# Altium schematic symbol library Marvell.SchLib: 4 symbols
Pins are listed as number, name and electrical type; pins without a type are passive.

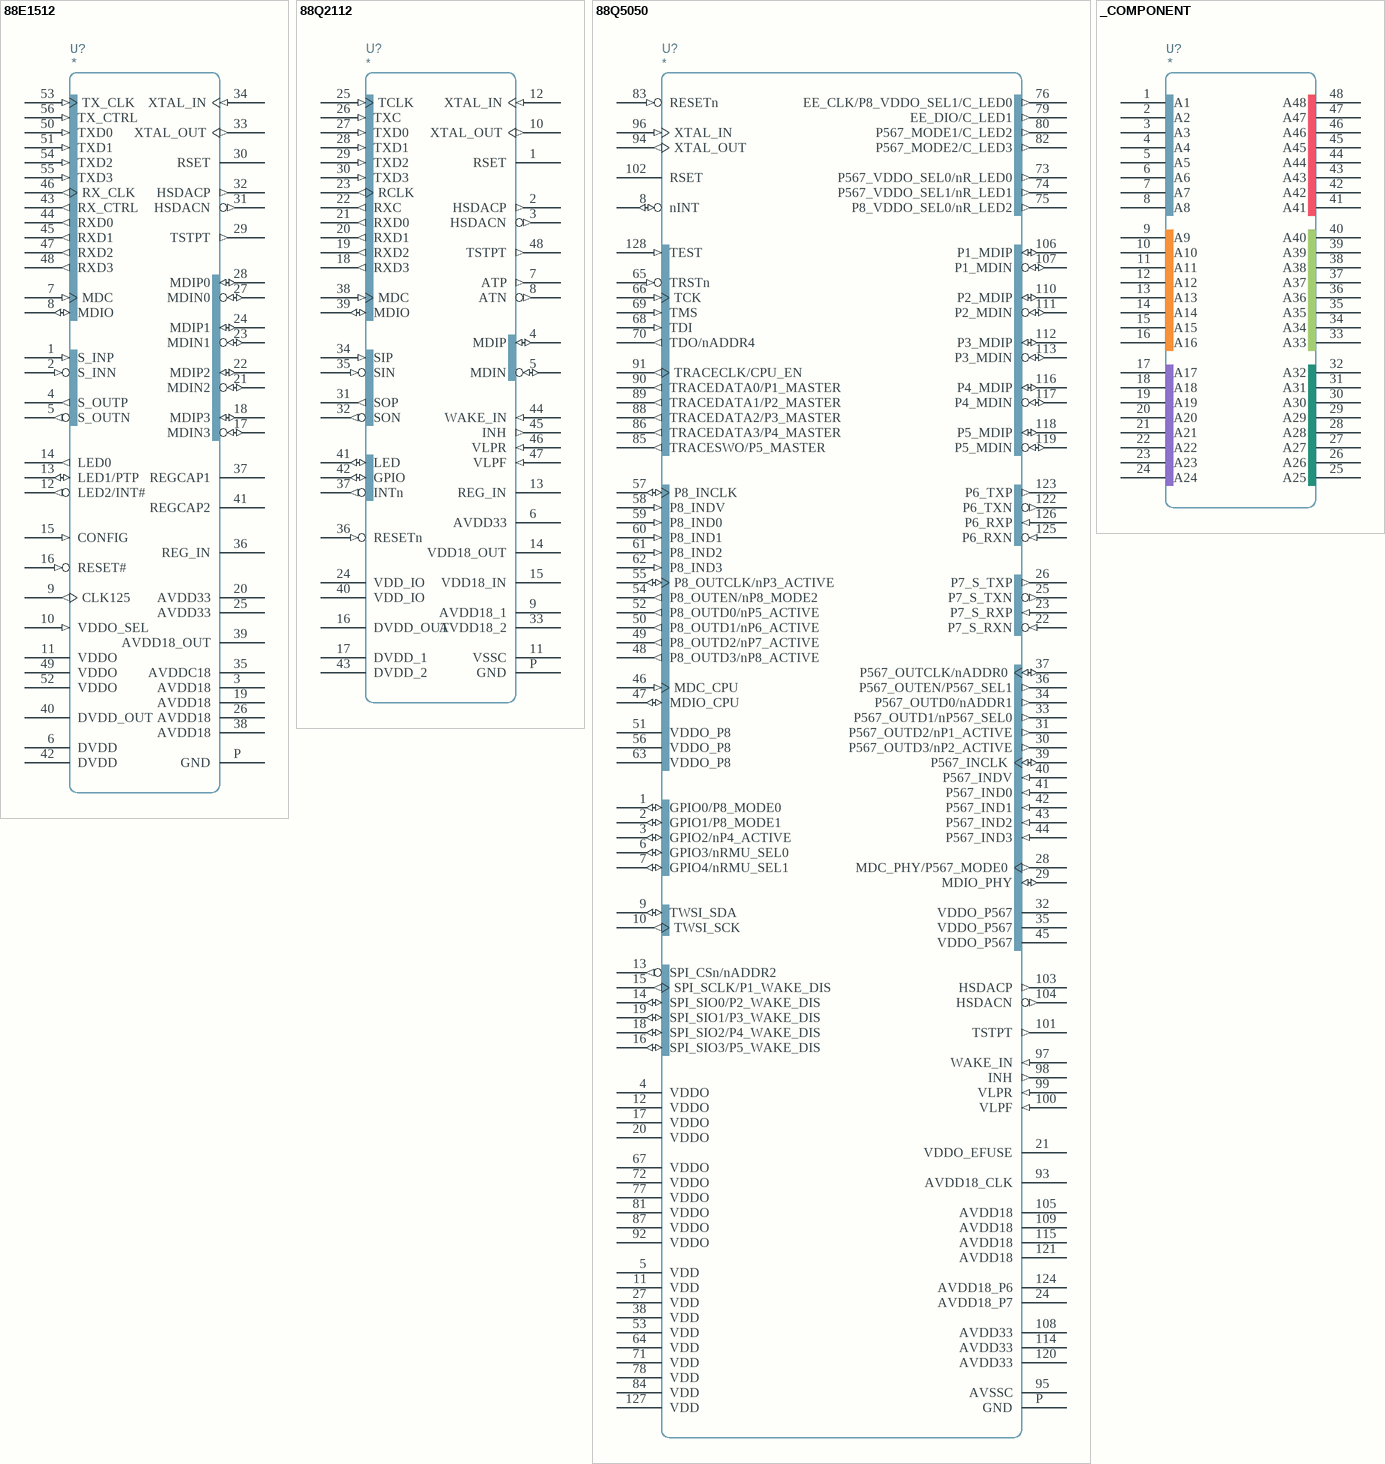
[diagram p0: symbols 88E1512 to _COMPONENT]

## 88E1512
designator U?
pins: 1 S_INP (in) "SGMII Receive Data 1.25Gbps", 2 S_INN (in) "SGMII Receive Data 1.25Gbps", 3 AVDD18 "Analog 1.8V Power Supply", 4 S_OUTP (out) "SGMII Transmit Data 1.25Gbps", 5 S_OUTN (out) "SGMII Transmit Data 1.25Gbps", 6 DVDD "1.0V Digital Core Power Supply", 7 MDC (in) "Management Data Clock", 8 MDIO (io) "Management Data I/O", 9 CLK125 (out) "125MHz Clock Output", 10 VDDO_SEL (in) "VSS = VDDO 2.5V / 3.3V; 1.8V = VDDO 1.8V", 11 VDDO "I/O Power Supply", 12 LED2/INT# (out) "LED and Active Low Interrupt", 13 LED1/PTP (io) "LED and PTP Event Req Input / PTP Trigger Resp Output", 14 LED0 (out) "LED", 15 CONFIG (in) "Hardware Configuration", 16 RESET# (in) "Hardware Reset", 17 MDIN3 (io) "Media Dependent Interface", 18 MDIP3 (io) "Media Dependent Interface", 19 AVDD18 "Analog 1.8V Power Supply", 20 AVDD33 "Analog 3.3V Power Supply", 21 MDIN2 (io) "Media Dependent Interface", 22 MDIP2 (io) "Media Dependent Interface", 23 MDIN1 (io) "Media Dependent Interface", 24 MDIP1 (io) "Media Dependent Interface", 25 AVDD33 "Analog 3.3V Power Supply", 26 AVDD18 "Analog 1.8V Power Supply", 27 MDIN0 (io) "Media Dependent Interface", 28 MDIP0 (io) "Media Dependent Interface", 29 TSTPT (out) "DC Test Point, Should be Float", 30 RSET "Constant Voltage Reference / 4.99k 1% Resistor to VSS", 31 HSDACN (out) "Float or connect with 49.9R Resistor to VSS", 32 HSDACP (out) "Float or connect with 49.9R Resistor to VSS", 33 XTAL_OUT (out) "25MHz/50ppm XTAL or Left Floating", 34 XTAL_IN (in) "25MHz/50ppm XTAL or 1.8V Reference Input", 35 AVDDC18 "Analog Clock 1.8V Power Supply", 36 REG_IN "Internal Regulator Supply - 3.3V Input", 37 REGCAP1 (power) "220nF 10% X5R Capacitor to REGCAP2", 38 AVDD18 "Analog 1.8V Power Supply", 39 AVDD18_OUT (power) "Regulator Output - 1.8V", 40 DVDD_OUT (power) "Regulator Output - 1.0V", 41 REGCAP2 (power) "220nF 10% X5R Capacitor to REGCAP1", 42 DVDD "1.0V Digital Core Power Supply", 43 RX_CTRL (out) "RGMII Receive Control", 44 RXD0 (out) "RGMII Receive Data", 45 RXD1 (out) "RGMII Receive Data", 46 RX_CLK (out) "RGMII Receive Clock", 47 RXD2 (out) "RGMII Receive Data", 48 RXD3 (out) "RGMII Receive Data", 49 VDDO "I/O Power Supply", 50 TXD0 (in) "RGMII Transmit Data", 51 TXD1 (in) "RGMII Transmit Data", 52 VDDO "I/O Power Supply", 53 TX_CLK (in) "RGMII Transmit Clock", 54 TXD2 (in) "RGMII Transmit Data", 55 TXD3 (in) "RGMII Transmit Data", 56 TX_CTRL (in) "RGMII Transmit Control", P GND "GND Pad"

## 88Q2112
designator U?
pins: 1 RSET, 2 HSDACP (out), 3 HSDACN (out), 4 MDIP (io), 5 MDIN (io), 6 AVDD33, 7 ATP (out), 8 ATN (out), 9 AVDD18_1, 10 XTAL_OUT (out), 11 VSSC, 12 XTAL_IN (in), 13 REG_IN, 14 VDD18_OUT (power), 15 VDD18_IN, 16 DVDD_OUT (power), 17 DVDD_1, 18 RXD3 (out), 19 RXD2 (out), 20 RXD1 (out), 21 RXD0 (out), 22 RXC (out), 23 RCLK (out), 24 VDD_IO, 25 TCLK (in), 26 TXC (in), 27 TXD0 (in), 28 TXD1 (in), 29 TXD2 (in), 30 TXD3 (in), 31 SOP (out), 32 SON (out), 33 AVDD18_2, 34 SIP (in), 35 SIN (in), 36 RESETn (in), 37 INTn (out), 38 MDC (in), 39 MDIO (io), 40 VDD_IO, 41 LED (io), 42 GPIO (io), 43 DVDD_2, 44 WAKE_IN (in), 45 INH (out), 46 VLPR (in), 47 VLPF (in), 48 TSTPT (out), P GND "GND Pad"

## 88Q5050
designator U?
pins: 1 GPIO0/P8_MODE0 (io), 2 GPIO1/P8_MODE1 (io), 3 GPIO2/nP4_ACTIVE (io), 4 VDDO, 5 VDD, 6 GPIO3/nRMU_SEL0 (io), 7 GPIO4/nRMU_SEL1 (io), 8 nINT (io), 9 TWSI_SDA (io), 10 TWSI_SCK (out), 11 VDD, 12 VDDO, 13 SPI_CSn/nADDR2 (out), 14 SPI_SIO0/P2_WAKE_DIS (io), 15 SPI_SCLK/P1_WAKE_DIS (out), 16 SPI_SIO3/P5_WAKE_DIS (io), 17 VDDO, 18 SPI_SIO2/P4_WAKE_DIS (io), 19 SPI_SIO1/P3_WAKE_DIS (io), 20 VDDO, 21 VDDO_EFUSE, 22 P7_S_RXN (in), 23 P7_S_RXP (in), 24 AVDD18_P7, 25 P7_S_TXN (out), 26 P7_S_TXP (out), 27 VDD, 28 MDC_PHY/P567_MODE0 (out), 29 MDIO_PHY (io), 30 P567_OUTD3/nP2_ACTIVE (out), 31 P567_OUTD2/nP1_ACTIVE (out), 32 VDDO_P567, 33 P567_OUTD1/nP567_SEL0 (out), 34 P567_OUTD0/nADDR1 (out), 35 VDDO_P567, 36 P567_OUTEN/P567_SEL1 (out), 37 P567_OUTCLK/nADDR0 (io), 38 VDD, 39 P567_INCLK (io), 40 P567_INDV (in), 41 P567_IND0 (in), 42 P567_IND1 (in), 43 P567_IND2 (in), 44 P567_IND3 (in), 45 VDDO_P567, 46 MDC_CPU (in), 47 MDIO_CPU (io), 48 P8_OUTD3/nP8_ACTIVE (out), 49 P8_OUTD2/nP7_ACTIVE (out), 50 P8_OUTD1/nP6_ACTIVE (out), 51 VDDO_P8, 52 P8_OUTD0/nP5_ACTIVE (out), 53 VDD, 54 P8_OUTEN/nP8_MODE2 (out), 55 P8_OUTCLK/nP3_ACTIVE (io), 56 VDDO_P8, 57 P8_INCLK (io), 58 P8_INDV (in), 59 P8_IND0 (in), 60 P8_IND1 (in), 61 P8_IND2 (in), 62 P8_IND3 (in), 63 VDDO_P8, 64 VDD, 65 TRSTn (in), 66 TCK (in), 67 VDDO, 68 TDI (in), 69 TMS (in), 70 TDO/nADDR4 (out), 71 VDD, 72 VDDO, 73 P567_VDDO_SEL0/nR_LED0 (out), 74 P567_VDDO_SEL1/nR_LED1 (out), 75 P8_VDDO_SEL0/nR_LED2 (out), 76 EE_CLK/P8_VDDO_SEL1/C_LED0 (out), 77 VDDO, 78 VDD, 79 EE_DIO/C_LED1 (out), 80 P567_MODE1/C_LED2 (out), 81 VDDO, 82 P567_MODE2/C_LED3 (out), 83 RESETn (in), 84 VDD, 85 TRACESWO/P5_MASTER (out), 86 TRACEDATA3/P4_MASTER (out), 87 VDDO, 88 TRACEDATA2/P3_MASTER (out), 89 TRACEDATA1/P2_MASTER (out), 90 TRACEDATA0/P1_MASTER (out), 91 TRACECLK/CPU_EN (out), 92 VDDO, 93 AVDD18_CLK, 94 XTAL_OUT (out), 95 AVSSC, 96 XTAL_IN (in), 97 WAKE_IN (in), 98 INH (out), 99 VLPR (in), 100 VLPF (in), 101 TSTPT (out), 102 RSET, 103 HSDACP (out), 104 HSDACN (out), 105 AVDD18, 106 P1_MDIP (io), 107 P1_MDIN (io), 108 AVDD33, 109 AVDD18, 110 P2_MDIP (io), 111 P2_MDIN (io), 112 P3_MDIP (io), 113 P3_MDIN (io), 114 AVDD33, 115 AVDD18, 116 P4_MDIP (io), 117 P4_MDIN (io), 118 P5_MDIP (io), 119 P5_MDIN (io), 120 AVDD33, 121 AVDD18, 122 P6_TXN (out), 123 P6_TXP (out), 124 AVDD18_P6, 125 P6_RXN (in), 126 P6_RXP (in), 127 VDD, 128 TEST (in), P GND

## _COMPONENT
designator U?
pins: 1 A1, 2 A2, 3 A3, 4 A4, 5 A5, 6 A6, 7 A7, 8 A8, 9 A9, 10 A10, 11 A11, 12 A12, 13 A13, 14 A14, 15 A15, 16 A16, 17 A17, 18 A18, 19 A19, 20 A20, 21 A21, 22 A22, 23 A23, 24 A24, 25 A25, 26 A26, 27 A27, 28 A28, 29 A29, 30 A30, 31 A31, 32 A32, 33 A33, 34 A34, 35 A35, 36 A36, 37 A37, 38 A38, 39 A39, 40 A40, 41 A41, 42 A42, 43 A43, 44 A44, 45 A45, 46 A46, 47 A47, 48 A48